# EAGLE library part FTDI_CONN_6PIN (library connectors)
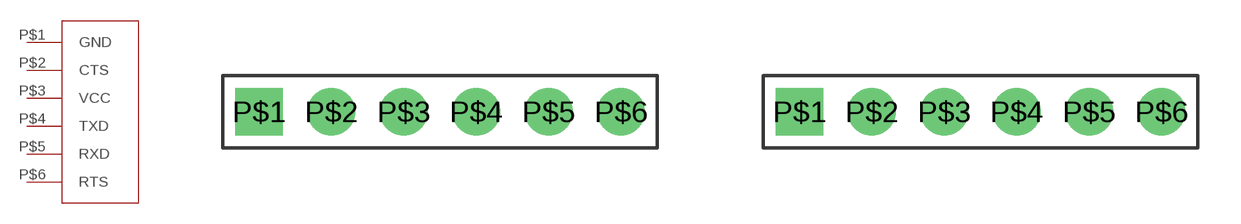
[diagram p0: symbol with the pads of 6X1_HEADER; footprints 6X1_HEADER, 6X1_FTDI_THT]

Designator prefix -

## FTDI_CONN_6PIN  [6X1_HEADER]
P$1  GND
P$2  CTS
P$3  VCC
P$4  TXD
P$5  RXD
P$6  RTS

## FTDI_CONN_6PINTHT_KEEPOUT  [6X1_FTDI_THT]
Pads as for 6X1_HEADER

## FTDI_CONN_6PINSMT_KEEPOUT  [6X1_FTDI_SMT]
1  GND
2  CTS
3  VCC
4  TXD
5  RXD
6  RTS

## Footprint 6X1_HEADER (pad centres in mm)
drill 1 pad 1.676 square: P$1 -6.35,0
drill 1 pad 1.676: P$2 -3.81,0; P$3 -1.27,0; P$4 1.27,0; P$5 3.81,0; P$6 6.35,0

## Footprint 6X1_FTDI_THT (pad centres in mm)
drill 1 pad 1.676 square: P$1 -6.35,0
drill 1 pad 1.676: P$2 -3.81,0; P$3 -1.27,0; P$4 1.27,0; P$5 3.81,0; P$6 6.35,0

## Footprint 6X1_FTDI_SMT (pad centres in mm)
smd 0.8 x 4: 1 -6.35,1.27; 2 -3.81,-1.27; 3 -1.27,1.27; 4 1.27,-1.27; 5 3.81,1.27; 6 6.35,-1.27